# Altium schematic symbol library Linear Technology.SchLib: 22 symbols
Pins are listed as number, name and electrical type; pins without a type are passive.

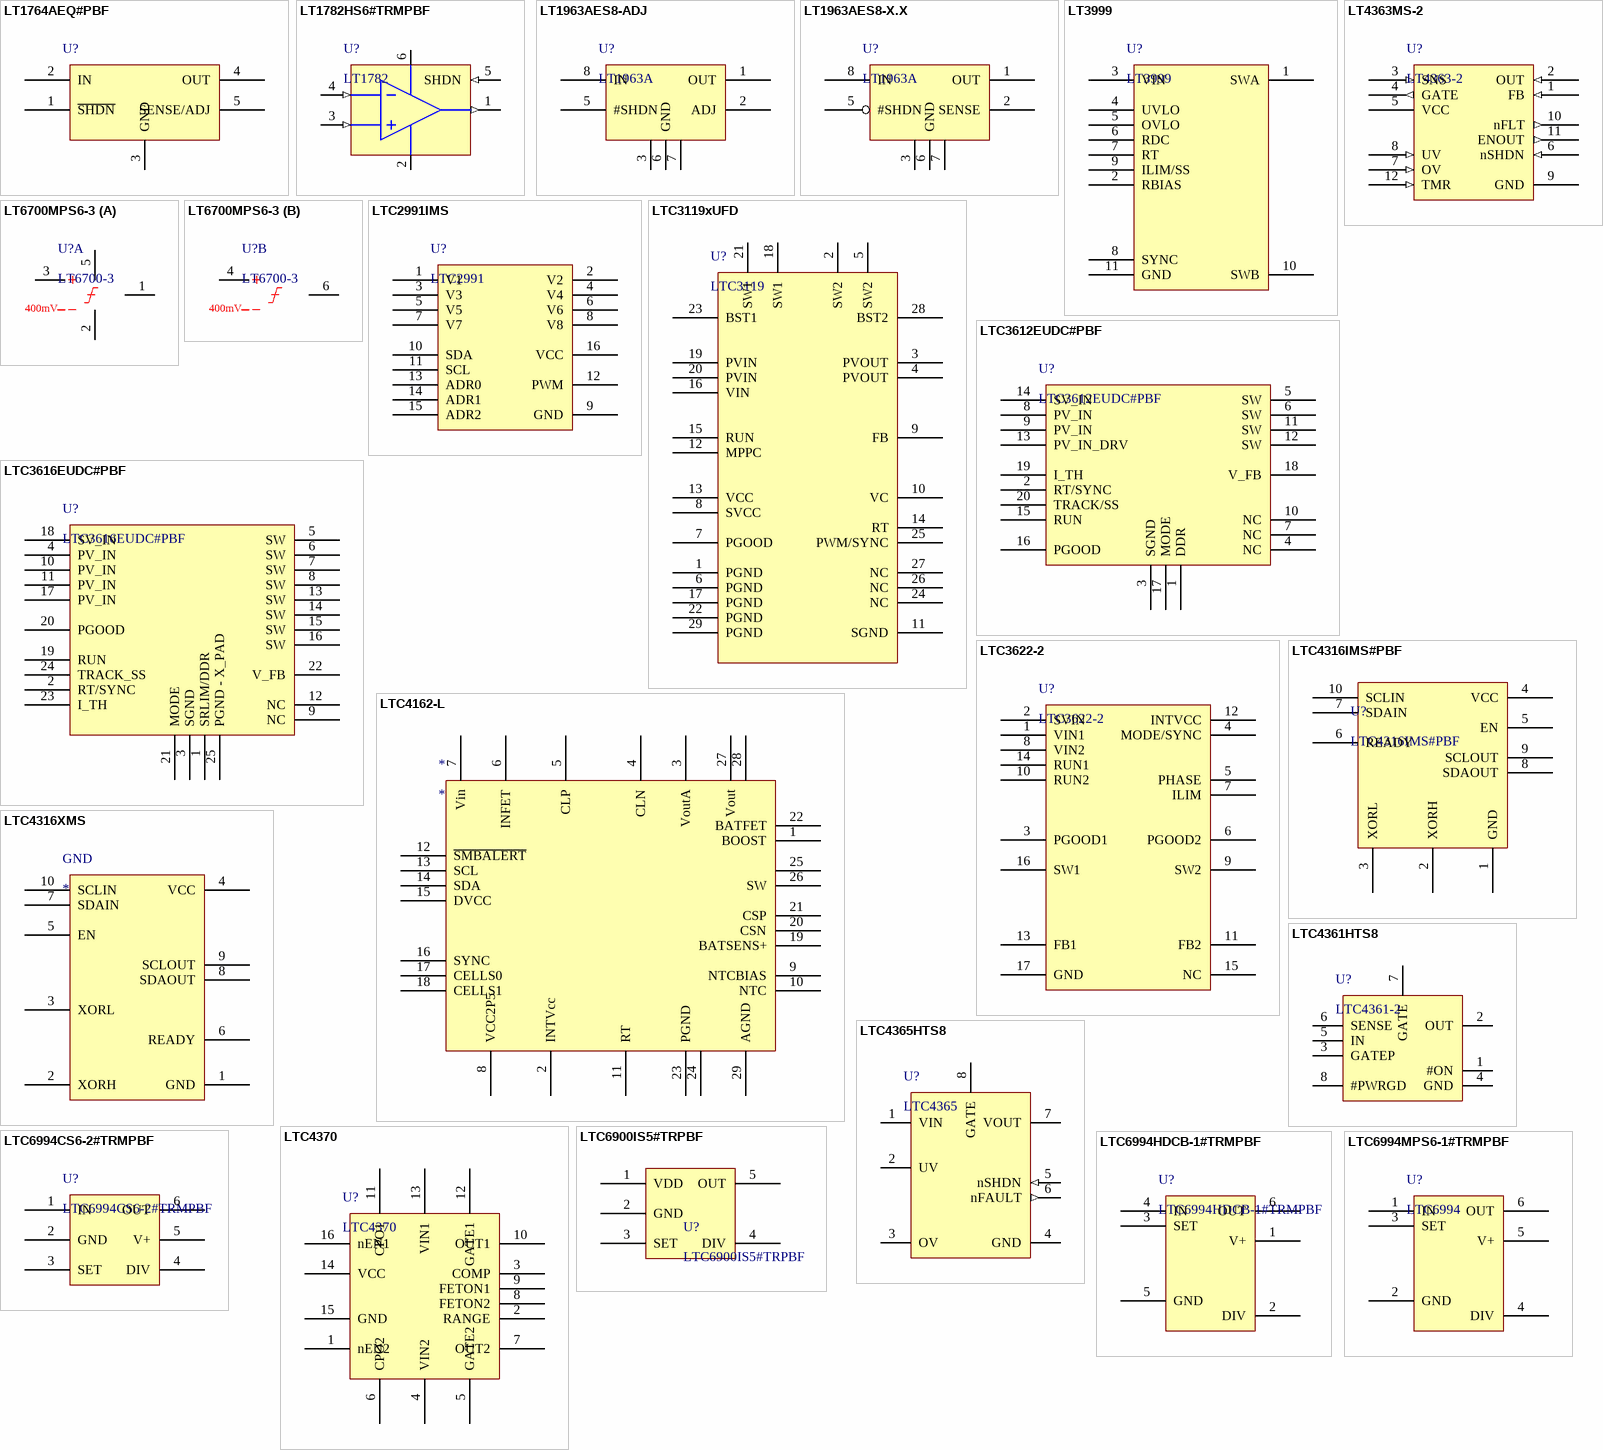
[diagram p0: symbols LT1764AEQ#PBF to LTC6994MPS6-1#TRMPBF]

## LT1764AEQ#PBF
designator U?  (value not drawn)
pins: 1 ~{SHDN}, 2 IN, 3 GND, 4 OUT, 5 SENSE/ADJ

## LT1782HS6#TRMPBF
designator U?, comment LT1782
pins: 1 OUT (out), 2 V- (power), 3 IN+ (in), 4 IN- (in), 5 SHDN (in), 6 V+ (power)

## LT1963AES8-ADJ
designator U?, comment LT1963A
pins: 1 OUT, 2 ADJ, 3 GND, 4 NC hidden to GND, 5 #SHDN, 6 GND, 7 GND, 8 IN

## LT1963AES8-X.X
designator U?, comment LT1963A
pins: 1 OUT, 2 SENSE, 3 GND, 4 NC hidden to GND, 5 #SHDN, 6 GND, 7 GND, 8 IN

## LT3999
designator U?
pins: 1 SWA, 2 RBIAS, 3 VIN, 4 UVLO, 5 OVLO, 6 RDC, 7 RT, 8 SYNC, 9 ILIM/SS, 10 SWB, 11 GND

## LT4363MS-2
designator U?, comment LT4363-2
pins: 1 FB (in), 2 OUT (in), 3 SNS (in), 4 GATE (out), 5 VCC (power), 6 nSHDN (in), 7 OV (in), 8 UV (in), 9 GND (power), 10 nFLT (out) "Open Collector", 11 ENOUT (out) "Open Collector", 12 TMR (in)

## LT6700MPS6-3
designator U?, comment LT6700-3
part A pins: 1 OUTA, 2 GND, 3 +INA, 5 VS
part B pins: 4 +INB, 6 OUTB
part A text: 400mV
part B text: 400mV

## LTC2991IMS
designator U?, comment LTC2991
pins: 1 V1, 2 V2, 3 V3, 4 V4, 5 V5, 6 V6, 7 V7, 8 V8, 9 GND, 10 SDA, 11 SCL, 12 PWM, 13 ADR0, 14 ADR1, 15 ADR2, 16 VCC

## LTC3119xUFD
designator U?, comment LTC3119
pins: 1 PGND, 2 SW2, 3 PVOUT, 4 PVOUT, 5 SW2, 6 PGND, 7 PGOOD, 8 SVCC, 9 FB, 10 VC, 11 SGND, 12 MPPC, 13 VCC, 14 RT, 15 RUN, 16 VIN, 17 PGND, 18 SW1, 19 PVIN, 20 PVIN, 21 SW1, 22 PGND, 23 BST1, 24 NC, 25 PWM/SYNC, 26 NC, 27 NC, 28 BST2, 29 PGND

## LTC3612EUDC#PBF
designator U?
pins: 1 DDR, 2 RT/SYNC, 3 SGND, 4 NC, 5 SW, 6 SW, 7 NC, 8 PV_IN, 9 PV_IN, 10 NC, 11 SW, 12 SW, 13 PV_IN_DRV, 14 SV_IN, 15 RUN, 16 PGOOD, 17 MODE, 18 V_FB, 19 I_TH, 20 TRACK/SS

## LTC3616EUDC#PBF
designator U?
pins: 1 SRLIM/DDR, 2 RT/SYNC, 3 SGND, 4 PV_IN, 5 SW, 6 SW, 7 SW, 8 SW, 9 NC, 10 PV_IN, 11 PV_IN, 12 NC, 13 SW, 14 SW, 15 SW, 16 SW, 17 PV_IN, 18 SV_IN, 19 RUN, 20 PGOOD, 21 MODE, 22 V_FB, 23 I_TH, 24 TRACK_SS, 25 PGND - X_PAD

## LTC3622-2
designator U?
pins: 1 VIN1, 2 SVIN, 3 PGOOD1, 4 MODE/SYNC, 5 PHASE, 6 PGOOD2, 7 ILIM, 8 VIN2, 9 SW2, 10 RUN2, 11 FB2, 12 INTVCC, 13 FB1, 14 RUN1, 15 NC, 16 SW1, 17 GND

## LTC4162-L
designator *
pins: 1 BOOST, 2 INTVcc, 3 VoutA, 4 CLN, 5 CLP, 6 INFET, 7 Vin, 8 VCC2P5, 9 NTCBIAS, 10 NTC, 11 RT, 12 ~{SMBALERT}, 13 SCL, 14 SDA, 15 DVCC, 16 SYNC, 17 CELLS0, 18 CELLS1, 19 BATSENS+, 20 CSN, 21 CSP, 22 BATFET, 23 PGND, 24 PGND, 25 SW, 26 SW, 27 Vout, 28 Vout, 29 AGND

## LTC4316IMS#PBF
designator U?
pins: 1 GND, 2 XORH, 3 XORL, 4 VCC, 5 EN, 6 READY, 7 SDAIN, 8 SDAOUT, 9 SCLOUT, 10 SCLIN

## LTC4316XMS
designator GND
pins: 1 GND, 2 XORH, 3 XORL, 4 VCC, 5 EN, 6 READY, 7 SDAIN, 8 SDAOUT, 9 SCLOUT, 10 SCLIN

## LTC4361HTS8
designator U?, comment LTC4361-2
pins: 1 #ON, 2 OUT, 3 GATEP, 4 GND, 5 IN, 6 SENSE, 7 GATE, 8 #PWRGD

## LTC4365HTS8
designator U?, comment LTC4365
pins: 1 VIN, 2 UV, 3 OV, 4 GND, 5 nSHDN (in), 6 nFAULT (out), 7 VOUT, 8 GATE

## LTC4370
designator U?
pins: 1 nEN2, 2 RANGE, 3 COMP, 4 VIN2, 5 GATE2, 6 CPO2, 7 OUT2, 8 FETON2, 9 FETON1, 10 OUT1, 11 CPO1, 12 GATE1, 13 VIN1, 14 VCC, 15 GND, 16 nEN1

## LTC6900IS5#TRPBF
designator U?
pins: 1 VDD, 2 GND, 3 SET, 4 DIV, 5 OUT

## LTC6994CS6-2#TRMPBF
designator U?
pins: 1 IN, 2 GND, 3 SET, 4 DIV, 5 V+, 6 OUT

## LTC6994HDCB-1#TRMPBF
designator U?
pins: 1 V+, 2 DIV, 3 SET, 4 IN, 5 GND, 6 OUT

## LTC6994MPS6-1#TRMPBF
designator U?, comment LTC6994
pins: 1 IN, 2 GND, 3 SET, 4 DIV, 5 V+, 6 OUT